# EAGLE library part NOKIA-3310-64X64 (library lc-meter)
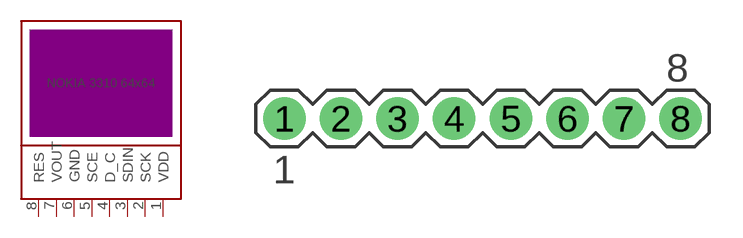
[diagram p3: symbol with the pads of 1X8; footprint 1X8]

Designator prefix -

## NOKIA-3310-64X64  [1X8]
1  VDD  pas
2  SCK  pas
3  SDIN  pas
4  D_C  pas
5  SCE  pas
6  GND  pas
7  VOUT  pas
8  RES  pas

## Footprint 1X8 (pad centres in mm)
drill 0.813 pad 1.905: 1 -8.89,0; 2 -6.35,0; 3 -3.81,0; 4 -1.27,0; 5 1.27,0; 6 3.81,0; 7 6.35,0; 8 8.89,0